# EAGLE library part SHOP_ESP_SMOL (library ElcPartsLibrary)
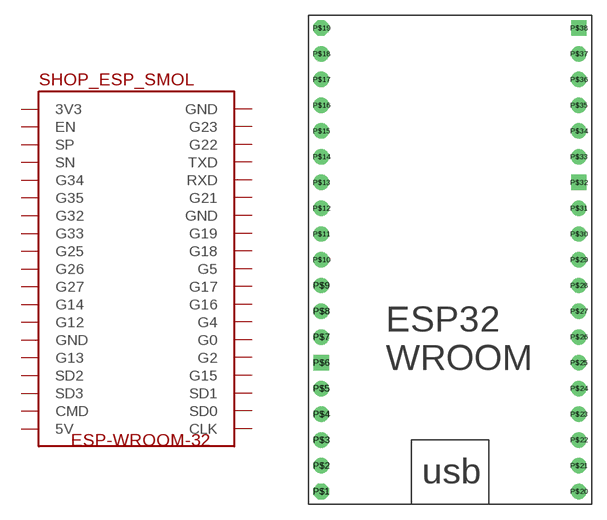
[diagram p4: symbol with the pads of ESP32-WROOM-32_SMOL; footprint ESP32-WROOM-32_SMOL]

Designator prefix -

## SHOP_ESP_SMOLSMOL  [ESP32-WROOM-32_SMOL]
P$1  5V  pwr
P$2  CMD  pwr
P$3  SD3
P$4  SD2
P$5  G13
P$6  GND
P$7  G12
P$8  G14
P$9  G27
P$10  G26
P$11  G25
P$12  G33
P$13  G32
P$14  G35
P$15  G34
P$16  SN
P$17  SP
P$18  EN
P$19  3V3  pwr
P$20  CLK
P$21  SD0
P$22  SD1
P$23  G15
P$24  G2
P$25  G0
P$26  G4
P$27  G16
P$28  G17
P$29  G5
P$30  G18
P$31  G19
P$32  GND
P$33  G21
P$34  RXD
P$35  TXD
P$36  G22
P$37  G23
P$38  GND

## Footprint ESP32-WROOM-32_SMOL (pad centres in mm)
drill 1.016 octagon: P$1 1.27,1.27; P$19 1.27,46.99
drill 1.016: P$2 1.27,3.81; P$3 1.27,6.35; P$4 1.27,8.89; P$5 1.27,11.43; P$7 1.27,16.51; P$8 1.27,19.05; P$9 1.27,21.59; P$10 1.27,24.13; P$11 1.27,26.67; P$12 1.27,29.21; P$13 1.27,31.75; P$14 1.27,34.29; P$15 1.27,36.83; P$16 1.27,39.37; P$17 1.27,41.91; P$18 1.27,44.45; P$20 26.67,1.27; P$21 26.67,3.81; P$22 26.67,6.35; P$23 26.67,8.89; P$24 26.67,11.43; P$25 26.67,13.97; P$26 26.67,16.51; P$27 26.67,19.05; P$28 26.67,21.59; P$29 26.67,24.13; P$30 26.67,26.67; P$31 26.67,29.21; P$33 26.67,34.29; P$34 26.67,36.83; P$35 26.67,39.37; P$36 26.67,41.91; P$37 26.67,44.45
drill 1.016 square: P$6 1.27,13.97; P$32 26.67,31.75; P$38 26.67,46.99